# EAGLE library part 74HC7541 (library SKAARHOJ)
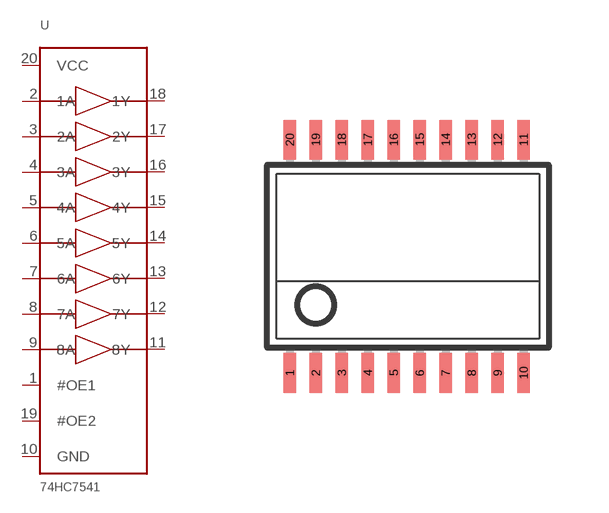
[diagram p81: symbol with the pads of TSSOP20_AMS; footprint TSSOP20_AMS]

Designator prefix -

## 74HC7541  [TSSOP20_AMS]
1  #OE1
2  1A
3  2A
4  3A
5  4A
6  5A
7  6A
8  7A
9  8A
10  GND
11  8Y
12  7Y
13  6Y
14  5Y
15  4Y
16  3Y
17  2Y
18  1Y
19  #OE2
20  VCC

## Footprint TSSOP20_AMS (pad centres in mm)
smd 0.305 x 0.991: 1 -2.925,-2.294; 2 -2.275,-2.294; 3 -1.625,-2.294; 4 -0.975,-2.294; 5 -0.325,-2.294; 6 0.325,-2.294; 7 0.975,-2.294; 8 1.625,-2.294; 9 2.275,-2.294; 10 2.925,-2.294; 11 2.925,3.542; 12 2.275,3.542; 13 1.625,3.542; 14 0.975,3.542; 15 0.325,3.542; 16 -0.325,3.542; 17 -0.975,3.542; 18 -1.625,3.542; 19 -2.275,3.542; 20 -2.925,3.542